# EAGLE library part 750316686 (library WE-OLTI)
WE-OLTI Offline Flyback Transformers Characteristics Nominal input voltage: 85–265 VAC (120–375 VDC) Small size Low leakage inductance Multiple-output options Operating temperature: −40 °C to +125 °C Isolation Voltage: 2 kVAC to 5 kVAC Options for fixed frequency or quasi-resonant mode operation Most products meet reinforced insulation Applications Industrial controls USB chargers Utility metering devices Process controls Factory automation Security systems Garage door opener auxiliary supplies Home appliances Especially designed for several ICs from Texas Instruments Details see: www.we-online.com/en/components/products/WE-OLTI Created by Ella 2025-02-06 2025 (C) Würth Elektronik
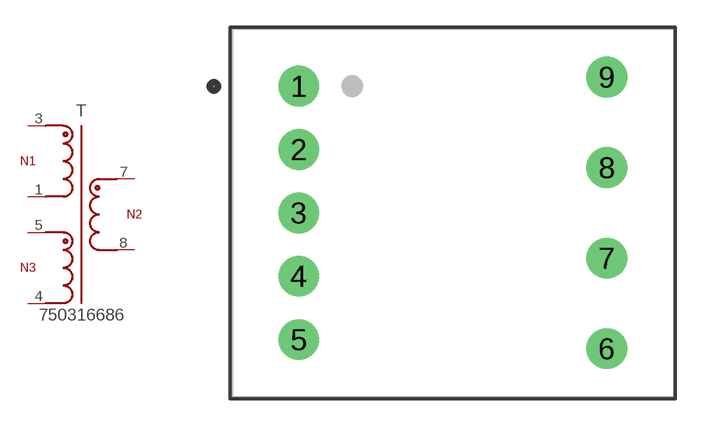
[diagram p22: symbol with the pads of WE-OLTI_EE16/8/5_L20.32W24.38H16; footprint WE-OLTI_EE16/8/5_L20.32W24.38H16]

Designator prefix T

## 750316686 (AUXILIARY_VOLTAGE_1: 12 V; CATEGORY: Transformers; DATASHEET: https://www.we-online.com/redexpert/spec/750316686?ae; HEIGHT: 16 mm; INDUCTANCE: 500 uH; INPUT_VOLTAGE: 85 - 265 V (AC); INSULATION_TEST_VOLTAGE: 3000 V (AC); LENGTH: 20.32 mm; MANUFACTURER: Würth Elektronik; MOUNT: THT; MPN: 750316686; OUTPUT_CURRENT_1: 1000 mA; OUTPUT_VOLTAGE_1: 12 V; SATURATION_CURRENT: 0.925 A; SIZE: EE16/8/5; SWITCHING-FREQUENCY: 70kHz; TURNS_RATIO: 6:1:1; VALUE: 500 uH; WIDTH: 24.38 mm)  [WE-OLTI_EE16/8/5_L20.32W24.38H16]
1  1  pas
3  3  pas
4  4  pas
5  5  pas
7  7  pas
8  8  pas

## Footprint WE-OLTI_EE16/8/5_L20.32W24.38H16 (pad centres in mm)
WE-OLTI Offline Flyback Transformers Size: EE16/8/5,THT,9pins LXWXH=20.32X24.38X16mm Bobbin: 070-5280
drill 1.5: 1 -8.5,7; 2 -8.5,3.5; 3 -8.5,0; 4 -8.5,-3.5; 5 -8.5,-7; 6 8.5,-7.5; 7 8.5,-2.5; 8 8.5,2.5; 9 8.5,7.5